# Altium integrated library FN-M16P.IntLib: 1 symbol
Pins are listed as number, name and electrical type; pins without a type are passive.

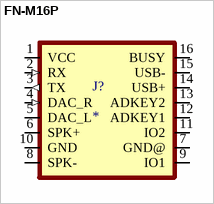
[diagram p0: symbol FN-M16P]

## FN-M16P
designator J?
Embedded MP3 Audio Module; MF: Flyron Technology Co., Ltd.; MP: FN-M16P; SnapEDA_Link: https://www.snapeda.com/parts/FN-M16P/Flyron+Technology+Co.%252C+Ltd./view-part/?ref=snap; Package: Package; Price: None; Availability: Not in stock; Value: *; Check_prices: https://www.snapeda.com/parts/FN-M16P/Flyron+Technology+Co.%252C+Ltd./view-part/?ref=eda
footprint FN-M16P
pins: 1 VCC (power), 2 RX (in), 3 TX (out), 4 DAC_R (in), 5 DAC_L (power), 6 SPK+ (io), 7 GND@ (io), 8 SPK- (io), 9 IO1 (io), 10 GND (io), 11 IO2 (io), 12 ADKEY1 (io), 13 ADKEY2 (io), 14 USB+ (io), 15 USB- (io), 16 BUSY (io)